# Altium footprint library Connector_FFC-FPC.PcbLib: 184 footprints (part 7 of 12)
Each footprint in its own frame and in the unit in brackets; x right, y up, seen from the top. Pads: shape width x height; smd on the part's side, far side on the other; paste and mask are expansions set on the pad; w line width, h text height; cw(c..) or ccw(c..) is an arc to the next point about the centre after c.
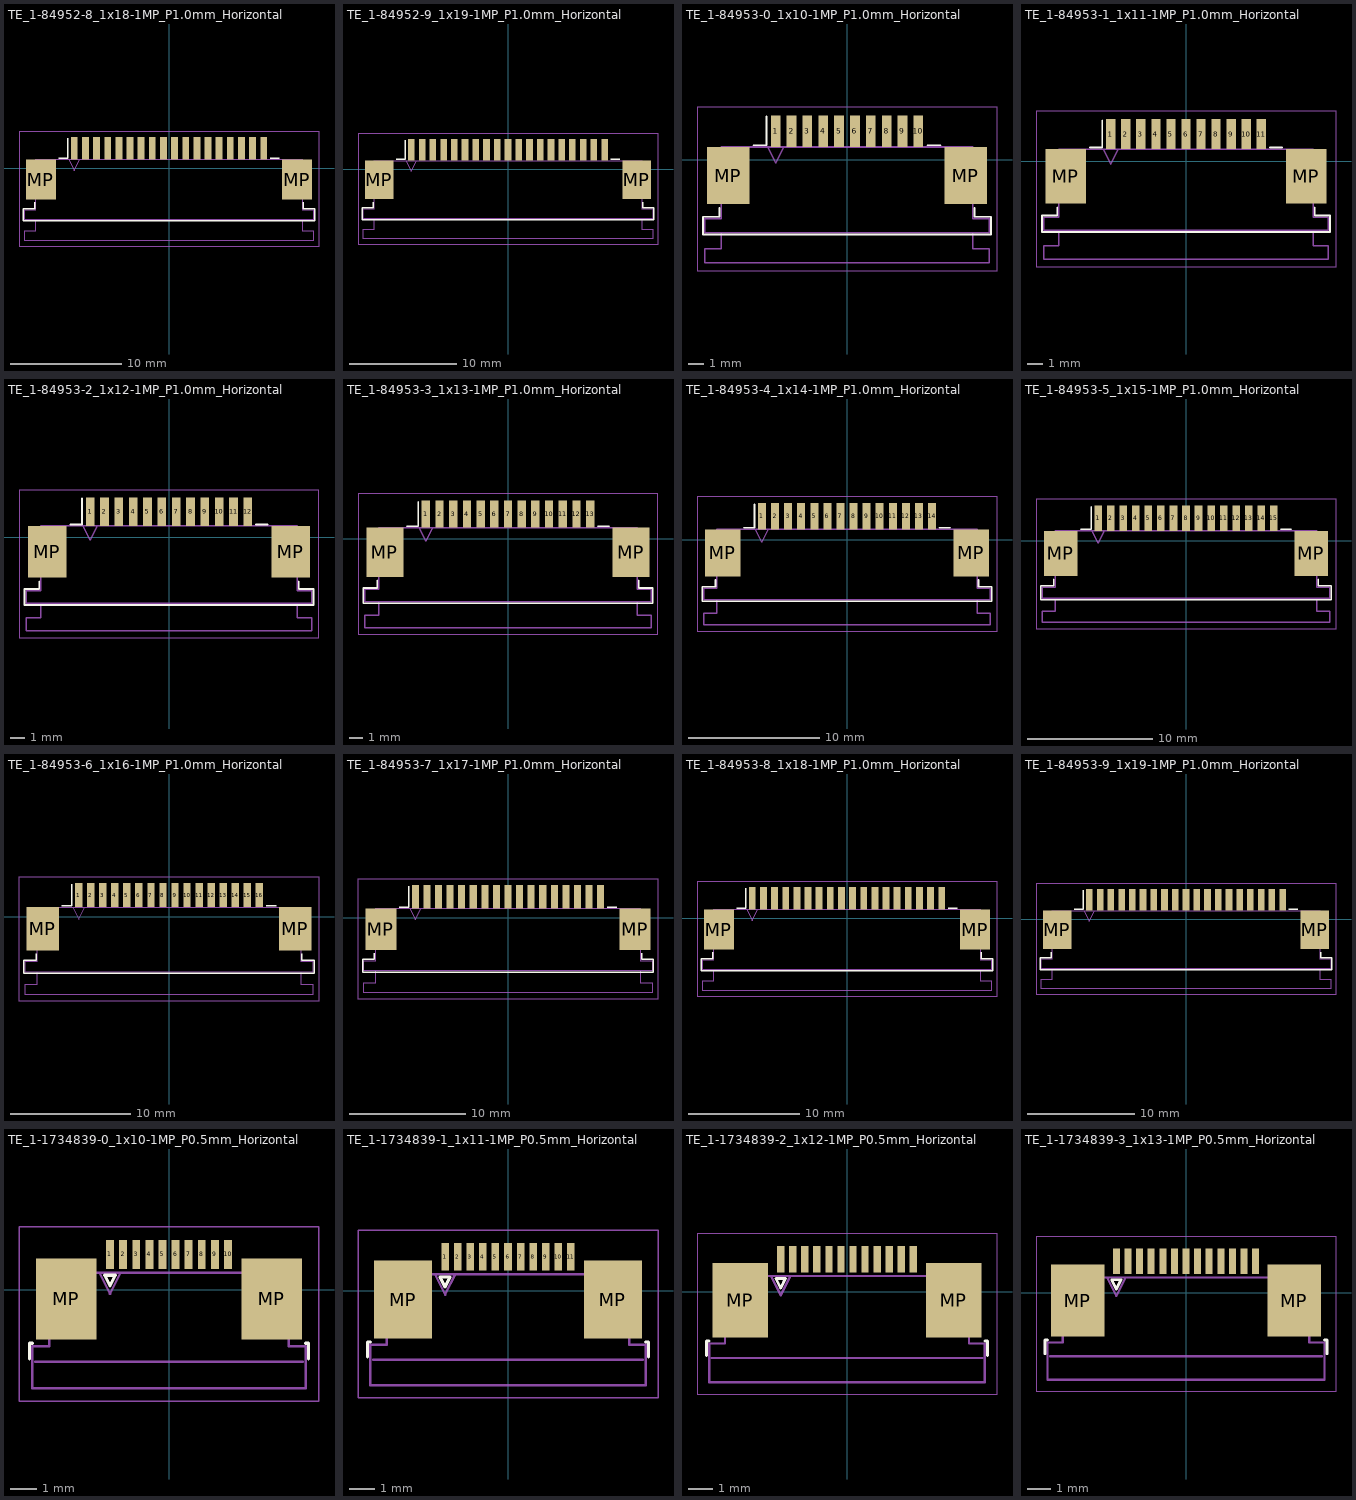
[diagram p6: the footprints below, top view; thin cyan lines are the x and y axes]

## TE_1-84952-8_1x18-1MP_P1.0mm_Horizontal [mm]
pads (20):
  rect 0.61x2 smd: 1(-8.5,1.8) 2(-7.5,1.8) 3(-6.5,1.8) 4(-5.5,1.8) 5(-4.5,1.8) 6(-3.5,1.8) 7(-2.5,1.8) 8(-1.5,1.8) 9(-0.5,1.8) 10(0.5,1.8) 11(1.5,1.8) 12(2.5,1.8) 13(3.5,1.8) 14(4.5,1.8) 15(5.5,1.8) 16(6.5,1.8) 17(7.5,1.8) 18(8.5,1.8)
  rect 2.68x3.6 smd: MP(-11.49,-1) MP(11.49,-1)
F.SilkS:
  lines w0.12: -12.045,-3.06 -12.045,-3.6 -13.07,-3.6 -13.07,-4.71 13.07,-4.71 13.07,-3.6 12.045,-3.6 12.045,-3.06 ; -9.89,0.91 -9.065,0.91 -9.065,2.71 ; 9.065,0.91 9.89,0.91
F.CrtYd:
  lines w0.05: -13.46,-7 -13.46,3.3 13.46,3.3 13.46,-7 -13.46,-7
F.Fab:
  lines w0.1: -11.935,-4.6 -11.935,-5.61 -12.96,-5.61 -12.96,-6.5 12.96,-6.5 12.96,-5.61 11.935,-5.61 11.935,-4.6 ; -9,0.8 -8.5,-0.2 -8,0.8 ; -12.96,-4.6 -12.96,-3.71 -11.935,-3.71 -11.935,0.8 11.935,0.8 11.935,-3.71 12.96,-3.71 12.96,-4.6 -12.96,-4.6
  text "'.Designator'" at -4.047,-2.74 h1

## TE_1-84952-9_1x19-1MP_P1.0mm_Horizontal [mm]
pads (21):
  rect 0.61x2 smd: 1(-9,1.8) 2(-8,1.8) 3(-7,1.8) 4(-6,1.8) 5(-5,1.8) 6(-4,1.8) 7(-3,1.8) 8(-2,1.8) 9(-1,1.8) 10(0,1.8) 11(1,1.8) 12(2,1.8) 13(3,1.8) 14(4,1.8) 15(5,1.8) 16(6,1.8) 17(7,1.8) 18(8,1.8) 19(9,1.8)
  rect 2.68x3.6 smd: MP(-11.99,-1) MP(11.99,-1)
F.SilkS:
  lines w0.12: -12.545,-3.06 -12.545,-3.6 -13.57,-3.6 -13.57,-4.71 13.57,-4.71 13.57,-3.6 12.545,-3.6 12.545,-3.06 ; -10.39,0.91 -9.565,0.91 -9.565,2.71 ; 9.565,0.91 10.39,0.91
F.CrtYd:
  lines w0.05: -13.96,-7 -13.96,3.3 13.96,3.3 13.96,-7 -13.96,-7
F.Fab:
  lines w0.1: -12.435,-4.6 -12.435,-5.61 -13.46,-5.61 -13.46,-6.5 13.46,-6.5 13.46,-5.61 12.435,-5.61 12.435,-4.6 ; -9.5,0.8 -9,-0.2 -8.5,0.8 ; -13.46,-4.6 -13.46,-3.71 -12.435,-3.71 -12.435,0.8 12.435,0.8 12.435,-3.71 13.46,-3.71 13.46,-4.6 -13.46,-4.6
  text "'.Designator'" at -4.047,-2.74 h1

## TE_1-84953-0_1x10-1MP_P1.0mm_Horizontal [mm]
pads (12):
  rect 0.61x2 smd: 1(-4.5,1.8) 2(-3.5,1.8) 3(-2.5,1.8) 4(-1.5,1.8) 5(-0.5,1.8) 6(0.5,1.8) 7(1.5,1.8) 8(2.5,1.8) 9(3.5,1.8) 10(4.5,1.8)
  rect 2.68x3.6 smd: MP(-7.49,-1) MP(7.49,-1)
F.SilkS:
  lines w0.12: -8.045,-3.06 -8.045,-3.6 -9.07,-3.6 -9.07,-4.71 9.07,-4.71 9.07,-3.6 8.045,-3.6 8.045,-3.06 ; -5.89,0.91 -5.065,0.91 -5.065,2.71 ; 5.065,0.91 5.89,0.91
F.CrtYd:
  lines w0.05: -9.46,-7 -9.46,3.3 9.46,3.3 9.46,-7 -9.46,-7
F.Fab:
  lines w0.1: -7.935,-4.6 -7.935,-5.61 -8.96,-5.61 -8.96,-6.5 8.96,-6.5 8.96,-5.61 7.935,-5.61 7.935,-4.6 ; -5,0.8 -4.5,-0.2 -4,0.8 ; -8.96,-4.6 8.96,-4.6 8.96,-3.71 7.935,-3.71 7.935,0.8 -7.935,0.8 -7.935,-3.71 -8.96,-3.71 -8.96,-4.6
  text "'.Designator'" at -4.047,-2.74 h1

## TE_1-84953-1_1x11-1MP_P1.0mm_Horizontal [mm]
pads (13):
  rect 0.61x2 smd: 1(-5,1.8) 2(-4,1.8) 3(-3,1.8) 4(-2,1.8) 5(-1,1.8) 6(0,1.8) 7(1,1.8) 8(2,1.8) 9(3,1.8) 10(4,1.8) 11(5,1.8)
  rect 2.68x3.6 smd: MP(-7.99,-1) MP(7.99,-1)
F.SilkS:
  lines w0.12: -8.545,-3.06 -8.545,-3.6 -9.57,-3.6 -9.57,-4.71 9.57,-4.71 9.57,-3.6 8.545,-3.6 8.545,-3.06 ; -6.39,0.91 -5.565,0.91 -5.565,2.71 ; 5.565,0.91 6.39,0.91
F.CrtYd:
  lines w0.05: -9.96,-7 9.96,-7 9.96,3.3 -9.96,3.3 -9.96,-7
F.Fab:
  lines w0.1: -8.435,-4.6 -8.435,-5.61 -9.46,-5.61 -9.46,-6.5 9.46,-6.5 9.46,-5.61 8.435,-5.61 8.435,-4.6 ; -5.5,0.8 -5,-0.2 -4.5,0.8 ; -9.46,-4.6 9.46,-4.6 9.46,-3.71 8.435,-3.71 8.435,0.8 -8.435,0.8 -8.435,-3.71 -9.46,-3.71 -9.46,-4.6
  text "'.Designator'" at -4.047,-2.74 h1

## TE_1-84953-2_1x12-1MP_P1.0mm_Horizontal [mm]
pads (14):
  rect 0.61x2 smd: 1(-5.5,1.8) 2(-4.5,1.8) 3(-3.5,1.8) 4(-2.5,1.8) 5(-1.5,1.8) 6(-0.5,1.8) 7(0.5,1.8) 8(1.5,1.8) 9(2.5,1.8) 10(3.5,1.8) 11(4.5,1.8) 12(5.5,1.8)
  rect 2.68x3.6 smd: MP(-8.49,-1) MP(8.49,-1)
F.SilkS:
  lines w0.12: -9.045,-3.06 -9.045,-3.6 -10.07,-3.6 -10.07,-4.71 10.07,-4.71 10.07,-3.6 9.045,-3.6 9.045,-3.06 ; -6.89,0.91 -6.065,0.91 -6.065,2.71 ; 6.065,0.91 6.89,0.91
F.CrtYd:
  lines w0.05: -10.46,-7 10.46,-7 10.46,3.3 -10.46,3.3 -10.46,-7
F.Fab:
  lines w0.1: -8.935,-4.6 -8.935,-5.61 -9.96,-5.61 -9.96,-6.5 9.96,-6.5 9.96,-5.61 8.935,-5.61 8.935,-4.6 ; -6,0.8 -5.5,-0.2 -5,0.8 ; -9.96,-4.6 -9.96,-3.71 -8.935,-3.71 -8.935,0.8 8.935,0.8 8.935,-3.71 9.96,-3.71 9.96,-4.6 -9.96,-4.6
  text "'.Designator'" at -4.047,-2.74 h1

## TE_1-84953-3_1x13-1MP_P1.0mm_Horizontal [mm]
pads (15):
  rect 0.61x2 smd: 1(-6,1.8) 2(-5,1.8) 3(-4,1.8) 4(-3,1.8) 5(-2,1.8) 6(-1,1.8) 7(0,1.8) 8(1,1.8) 9(2,1.8) 10(3,1.8) 11(4,1.8) 12(5,1.8) 13(6,1.8)
  rect 2.68x3.6 smd: MP(-8.99,-1) MP(8.99,-1)
F.SilkS:
  lines w0.12: -9.545,-3.06 -9.545,-3.6 -10.57,-3.6 -10.57,-4.71 10.57,-4.71 10.57,-3.6 9.545,-3.6 9.545,-3.06 ; -7.39,0.91 -6.565,0.91 -6.565,2.71 ; 6.565,0.91 7.39,0.91
F.CrtYd:
  lines w0.05: -10.96,-7 10.96,-7 10.96,3.3 -10.96,3.3 -10.96,-7
F.Fab:
  lines w0.1: -9.435,-4.6 -9.435,-5.61 -10.46,-5.61 -10.46,-6.5 10.46,-6.5 10.46,-5.61 9.435,-5.61 9.435,-4.6 ; -6.5,0.8 -6,-0.2 -5.5,0.8 ; -10.46,-4.6 10.46,-4.6 10.46,-3.71 9.435,-3.71 9.435,0.8 -9.435,0.8 -9.435,-3.71 -10.46,-3.71 -10.46,-4.6
  text "'.Designator'" at -4.047,-2.74 h1

## TE_1-84953-4_1x14-1MP_P1.0mm_Horizontal [mm]
pads (16):
  rect 0.61x2 smd: 1(-6.5,1.8) 2(-5.5,1.8) 3(-4.5,1.8) 4(-3.5,1.8) 5(-2.5,1.8) 6(-1.5,1.8) 7(-0.5,1.8) 8(0.5,1.8) 9(1.5,1.8) 10(2.5,1.8) 11(3.5,1.8) 12(4.5,1.8) 13(5.5,1.8) 14(6.5,1.8)
  rect 2.68x3.6 smd: MP(-9.49,-1) MP(9.49,-1)
F.SilkS:
  lines w0.12: -10.045,-3.06 -10.045,-3.6 -11.07,-3.6 -11.07,-4.71 11.07,-4.71 11.07,-3.6 10.045,-3.6 10.045,-3.06 ; -7.89,0.91 -7.065,0.91 -7.065,2.71 ; 7.065,0.91 7.89,0.91
F.CrtYd:
  lines w0.05: -11.46,-7 -11.46,3.3 11.46,3.3 11.46,-7 -11.46,-7
F.Fab:
  lines w0.1: -9.935,-4.6 -9.935,-5.61 -10.96,-5.61 -10.96,-6.5 10.96,-6.5 10.96,-5.61 9.935,-5.61 9.935,-4.6 ; -7,0.8 -6.5,-0.2 -6,0.8 ; -10.96,-4.6 10.96,-4.6 10.96,-3.71 9.935,-3.71 9.935,0.8 -9.935,0.8 -9.935,-3.71 -10.96,-3.71 -10.96,-4.6
  text "'.Designator'" at -4.047,-2.74 h1

## TE_1-84953-5_1x15-1MP_P1.0mm_Horizontal [mm]
pads (17):
  rect 0.61x2 smd: 1(-7,1.8) 2(-6,1.8) 3(-5,1.8) 4(-4,1.8) 5(-3,1.8) 6(-2,1.8) 7(-1,1.8) 8(0,1.8) 9(1,1.8) 10(2,1.8) 11(3,1.8) 12(4,1.8) 13(5,1.8) 14(6,1.8) 15(7,1.8)
  rect 2.68x3.6 smd: MP(-9.99,-1) MP(9.99,-1)
F.SilkS:
  lines w0.12: -10.545,-3.06 -10.545,-3.6 -11.57,-3.6 -11.57,-4.71 11.57,-4.71 11.57,-3.6 10.545,-3.6 10.545,-3.06 ; -8.39,0.91 -7.565,0.91 -7.565,2.71 ; 7.565,0.91 8.39,0.91
F.CrtYd:
  lines w0.05: -11.96,-7 -11.96,3.3 11.96,3.3 11.96,-7 -11.96,-7
F.Fab:
  lines w0.1: -10.435,-4.6 -10.435,-5.61 -11.46,-5.61 -11.46,-6.5 11.46,-6.5 11.46,-5.61 10.435,-5.61 10.435,-4.6 ; -7.5,0.8 -7,-0.2 -6.5,0.8 ; -11.46,-4.6 11.46,-4.6 11.46,-3.71 10.435,-3.71 10.435,0.8 -10.435,0.8 -10.435,-3.71 -11.46,-3.71 -11.46,-4.6
  text "'.Designator'" at -4.047,-2.74 h1

## TE_1-84953-6_1x16-1MP_P1.0mm_Horizontal [mm]
pads (18):
  rect 0.61x2 smd: 1(-7.5,1.8) 2(-6.5,1.8) 3(-5.5,1.8) 4(-4.5,1.8) 5(-3.5,1.8) 6(-2.5,1.8) 7(-1.5,1.8) 8(-0.5,1.8) 9(0.5,1.8) 10(1.5,1.8) 11(2.5,1.8) 12(3.5,1.8) 13(4.5,1.8) 14(5.5,1.8) 15(6.5,1.8) 16(7.5,1.8)
  rect 2.68x3.6 smd: MP(-10.49,-1) MP(10.49,-1)
F.SilkS:
  lines w0.12: -11.045,-3.06 -11.045,-3.6 -12.07,-3.6 -12.07,-4.71 12.07,-4.71 12.07,-3.6 11.045,-3.6 11.045,-3.06 ; -8.89,0.91 -8.065,0.91 -8.065,2.71 ; 8.065,0.91 8.89,0.91
F.CrtYd:
  lines w0.05: -12.46,-7 12.46,-7 12.46,3.3 -12.46,3.3 -12.46,-7
F.Fab:
  lines w0.1: -10.935,-4.6 -10.935,-5.61 -11.96,-5.61 -11.96,-6.5 11.96,-6.5 11.96,-5.61 10.935,-5.61 10.935,-4.6 ; -8,0.8 -7.5,-0.2 -7,0.8 ; -11.96,-4.6 -11.96,-3.71 -10.935,-3.71 -10.935,0.8 10.935,0.8 10.935,-3.71 11.96,-3.71 11.96,-4.6 -11.96,-4.6
  text "'.Designator'" at -4.047,-2.74 h1

## TE_1-84953-7_1x17-1MP_P1.0mm_Horizontal [mm]
pads (19):
  rect 0.61x2 smd: 1(-8,1.8) 2(-7,1.8) 3(-6,1.8) 4(-5,1.8) 5(-4,1.8) 6(-3,1.8) 7(-2,1.8) 8(-1,1.8) 9(0,1.8) 10(1,1.8) 11(2,1.8) 12(3,1.8) 13(4,1.8) 14(5,1.8) 15(6,1.8) 16(7,1.8) 17(8,1.8)
  rect 2.68x3.6 smd: MP(-10.99,-1) MP(10.99,-1)
F.SilkS:
  lines w0.12: -11.545,-3.06 -11.545,-3.6 -12.57,-3.6 -12.57,-4.71 12.57,-4.71 12.57,-3.6 11.545,-3.6 11.545,-3.06 ; -9.39,0.91 -8.565,0.91 -8.565,2.71 ; 8.565,0.91 9.39,0.91
F.CrtYd:
  lines w0.05: -12.96,-7 12.96,-7 12.96,3.3 -12.96,3.3 -12.96,-7
F.Fab:
  lines w0.1: -11.435,-4.6 -11.435,-5.61 -12.46,-5.61 -12.46,-6.5 12.46,-6.5 12.46,-5.61 11.435,-5.61 11.435,-4.6 ; -8.5,0.8 -8,-0.2 -7.5,0.8 ; -12.46,-4.6 -12.46,-3.71 -11.435,-3.71 -11.435,0.8 11.435,0.8 11.435,-3.71 12.46,-3.71 12.46,-4.6 -12.46,-4.6
  text "'.Designator'" at -4.047,-2.74 h1

## TE_1-84953-8_1x18-1MP_P1.0mm_Horizontal [mm]
pads (20):
  rect 0.61x2 smd: 1(-8.5,1.8) 2(-7.5,1.8) 3(-6.5,1.8) 4(-5.5,1.8) 5(-4.5,1.8) 6(-3.5,1.8) 7(-2.5,1.8) 8(-1.5,1.8) 9(-0.5,1.8) 10(0.5,1.8) 11(1.5,1.8) 12(2.5,1.8) 13(3.5,1.8) 14(4.5,1.8) 15(5.5,1.8) 16(6.5,1.8) 17(7.5,1.8) 18(8.5,1.8)
  rect 2.68x3.6 smd: MP(-11.49,-1) MP(11.49,-1)
F.SilkS:
  lines w0.12: -12.045,-3.06 -12.045,-3.6 -13.07,-3.6 -13.07,-4.71 13.07,-4.71 13.07,-3.6 12.045,-3.6 12.045,-3.06 ; -9.89,0.91 -9.065,0.91 -9.065,2.71 ; 9.065,0.91 9.89,0.91
F.CrtYd:
  lines w0.05: -13.46,-7 -13.46,3.3 13.46,3.3 13.46,-7 -13.46,-7
F.Fab:
  lines w0.1: -11.935,-4.6 -11.935,-5.61 -12.96,-5.61 -12.96,-6.5 12.96,-6.5 12.96,-5.61 11.935,-5.61 11.935,-4.6 ; -9,0.8 -8.5,-0.2 -8,0.8 ; -12.96,-4.6 -12.96,-3.71 -11.935,-3.71 -11.935,0.8 11.935,0.8 11.935,-3.71 12.96,-3.71 12.96,-4.6 -12.96,-4.6
  text "'.Designator'" at -4.047,-2.74 h1

## TE_1-84953-9_1x19-1MP_P1.0mm_Horizontal [mm]
pads (21):
  rect 0.61x2 smd: 1(-9,1.8) 2(-8,1.8) 3(-7,1.8) 4(-6,1.8) 5(-5,1.8) 6(-4,1.8) 7(-3,1.8) 8(-2,1.8) 9(-1,1.8) 10(0,1.8) 11(1,1.8) 12(2,1.8) 13(3,1.8) 14(4,1.8) 15(5,1.8) 16(6,1.8) 17(7,1.8) 18(8,1.8) 19(9,1.8)
  rect 2.68x3.6 smd: MP(-11.99,-1) MP(11.99,-1)
F.SilkS:
  lines w0.12: -12.545,-3.06 -12.545,-3.6 -13.57,-3.6 -13.57,-4.71 13.57,-4.71 13.57,-3.6 12.545,-3.6 12.545,-3.06 ; -10.39,0.91 -9.565,0.91 -9.565,2.71 ; 9.565,0.91 10.39,0.91
F.CrtYd:
  lines w0.05: -13.96,-7 13.96,-7 13.96,3.3 -13.96,3.3 -13.96,-7
F.Fab:
  lines w0.1: -12.435,-4.6 -12.435,-5.61 -13.46,-5.61 -13.46,-6.5 13.46,-6.5 13.46,-5.61 12.435,-5.61 12.435,-4.6 ; -9.5,0.8 -9,-0.2 -8.5,0.8 ; -13.46,-4.6 13.46,-4.6 13.46,-3.71 12.435,-3.71 12.435,0.8 -12.435,0.8 -12.435,-3.71 -13.46,-3.71 -13.46,-4.6
  text "'.Designator'" at -4.047,-2.74 h1

## TE_1-1734839-0_1x10-1MP_P0.5mm_Horizontal [mm]
pads (12):
  rect 0.3x1.1 smd: 1(-2.25,1.35) 2(-1.75,1.35) 3(-1.25,1.35) 4(-0.75,1.35) 5(-0.25,1.35) 6(0.25,1.35) 7(0.75,1.35) 8(1.25,1.35) 9(1.75,1.35) 10(2.25,1.35)
  rect 2.3x3.1 smd: MP(-3.92,-0.35) MP(3.92,-0.35)
F.SilkS:
  lines w0.12: -5.325,-2.64 -5.325,-2.04 -5.215,-2.04 ; 5.215,-2.04 5.325,-2.04 5.325,-2.64 ; -2.45,0.55 -2.05,0.55 -2.25,0.15 -2.45,0.55
Dwgs.User:
  lines w0.1: -5.105,-2.75 5.105,-2.75
F.CrtYd:
  lines w0.05: -5.72,-4.25 5.72,-4.25 5.72,2.4 -5.72,2.4 -5.72,-4.25
F.Fab:
  lines w0.1: -2.65,0.65 -2.25,-0.15 -1.85,0.65 ; -5.215,-3.75 5.215,-3.75 5.215,-2.15 4.56,-2.15 4.56,0.65 -4.56,0.65 -4.56,-2.15 -5.215,-2.15 -5.215,-3.75
  text "'.Designator'" at -4.047,-2.39 h1

## TE_1-1734839-1_1x11-1MP_P0.5mm_Horizontal [mm]
pads (13):
  rect 0.3x1.1 smd: 1(-2.5,1.35) 2(-2,1.35) 3(-1.5,1.35) 4(-1,1.35) 5(-0.5,1.35) 6(0,1.35) 7(0.5,1.35) 8(1,1.35) 9(1.5,1.35) 10(2,1.35) 11(2.5,1.35)
  rect 2.3x3.1 smd: MP(-4.17,-0.35) MP(4.17,-0.35)
F.SilkS:
  lines w0.12: -5.575,-2.64 -5.575,-2.04 -5.465,-2.04 ; 5.465,-2.04 5.575,-2.04 5.575,-2.64 ; -2.7,0.55 -2.3,0.55 -2.5,0.15 -2.7,0.55
Dwgs.User:
  lines w0.1: -5.355,-2.75 5.355,-2.75
F.CrtYd:
  lines w0.05: -5.96,-4.25 5.96,-4.25 5.96,2.4 -5.96,2.4 -5.96,-4.25
F.Fab:
  lines w0.1: -2.9,0.65 -2.5,-0.15 -2.1,0.65 ; -5.465,-3.75 -5.465,-2.15 -4.81,-2.15 -4.81,0.65 4.81,0.65 4.81,-2.15 5.465,-2.15 5.465,-3.75 -5.465,-3.75
  text "'.Designator'" at -4.047,-2.39 h1

## TE_1-1734839-2_1x12-1MP_P0.5mm_Horizontal [mm]
pads (14):
  rect 0.3x1.1 smd: 1(-2.75,1.35) 2(-2.25,1.35) 3(-1.75,1.35) 4(-1.25,1.35) 5(-0.75,1.35) 6(-0.25,1.35) 7(0.25,1.35) 8(0.75,1.35) 9(1.25,1.35) 10(1.75,1.35) 11(2.25,1.35) 12(2.75,1.35)
  rect 2.3x3.1 smd: MP(-4.42,-0.35) MP(4.42,-0.35)
F.SilkS:
  lines w0.12: -5.825,-2.64 -5.825,-2.04 -5.715,-2.04 ; 5.715,-2.04 5.825,-2.04 5.825,-2.64 ; -2.95,0.55 -2.75,0.15 -2.55,0.55 -2.95,0.55
Dwgs.User:
  lines w0.1: -5.605,-2.75 5.605,-2.75
F.CrtYd:
  lines w0.05: -6.22,-4.25 6.22,-4.25 6.22,2.4 -6.22,2.4 -6.22,-4.25
F.Fab:
  lines w0.1: -3.15,0.65 -2.75,-0.15 -2.35,0.65 ; -5.715,-3.75 5.715,-3.75 5.715,-2.15 5.06,-2.15 5.06,0.65 -5.06,0.65 -5.06,-2.15 -5.715,-2.15 -5.715,-3.75
  text "'.Designator'" at -4.047,-2.39 h1

## TE_1-1734839-3_1x13-1MP_P0.5mm_Horizontal [mm]
pads (15):
  rect 0.3x1.1 smd: 1(-3,1.35) 2(-2.5,1.35) 3(-2,1.35) 4(-1.5,1.35) 5(-1,1.35) 6(-0.5,1.35) 7(0,1.35) 8(0.5,1.35) 9(1,1.35) 10(1.5,1.35) 11(2,1.35) 12(2.5,1.35) 13(3,1.35)
  rect 2.3x3.1 smd: MP(-4.67,-0.35) MP(4.67,-0.35)
F.SilkS:
  lines w0.12: -6.075,-2.64 -6.075,-2.04 -5.965,-2.04 ; 5.965,-2.04 6.075,-2.04 6.075,-2.64 ; -3.2,0.55 -3,0.15 -2.8,0.55 -3.2,0.55
Dwgs.User:
  lines w0.1: -5.855,-2.75 5.855,-2.75
F.CrtYd:
  lines w0.05: -6.46,-4.25 -6.46,2.4 6.46,2.4 6.46,-4.25 -6.46,-4.25
F.Fab:
  lines w0.1: -3.4,0.65 -3,-0.15 -2.6,0.65 ; -5.965,-3.75 5.965,-3.75 5.965,-2.15 5.31,-2.15 5.31,0.65 -5.31,0.65 -5.31,-2.15 -5.965,-2.15 -5.965,-3.75
  text "'.Designator'" at -4.047,-2.39 h1